# EAGLE library part FLASH (library flash)
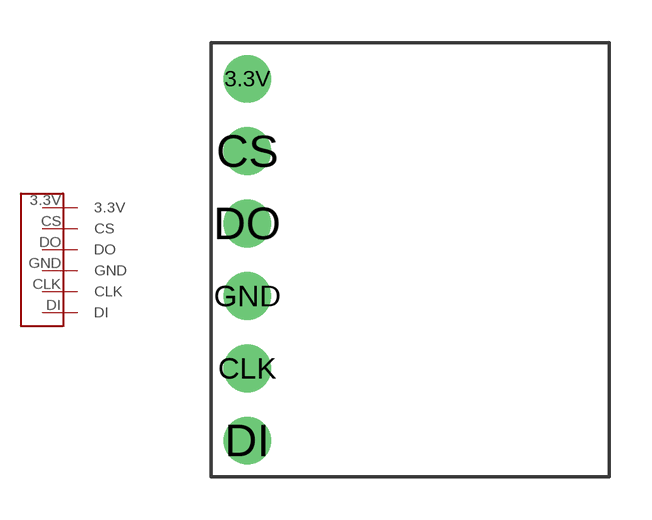
[diagram p0: symbol with the pads of FLASH; footprint FLASH]

Designator prefix -

## FLASH  [FLASH]
3.3V  3.3V
CLK  CLK
CS  CS
DI  DI
DO  DO
GND  GND

## Footprint FLASH (pad centres in mm)
drill 1 pad 1.676: 3.3V 1.27,13.97; CLK 1.27,3.81; CS 1.27,11.43; DI 1.27,1.27; DO 1.27,8.89; GND 1.27,6.35